# Altium footprint library B-NT_V.PcbLib: 24 footprints (part 2 of 2)
Each footprint in its own frame and in the unit in brackets; x right, y up, seen from the top. Pads: shape width x height; smd on the part's side, far side on the other; paste and mask are expansions set on the pad; w line width, h text height; cw(c..) or ccw(c..) is an arc to the next point about the centre after c.
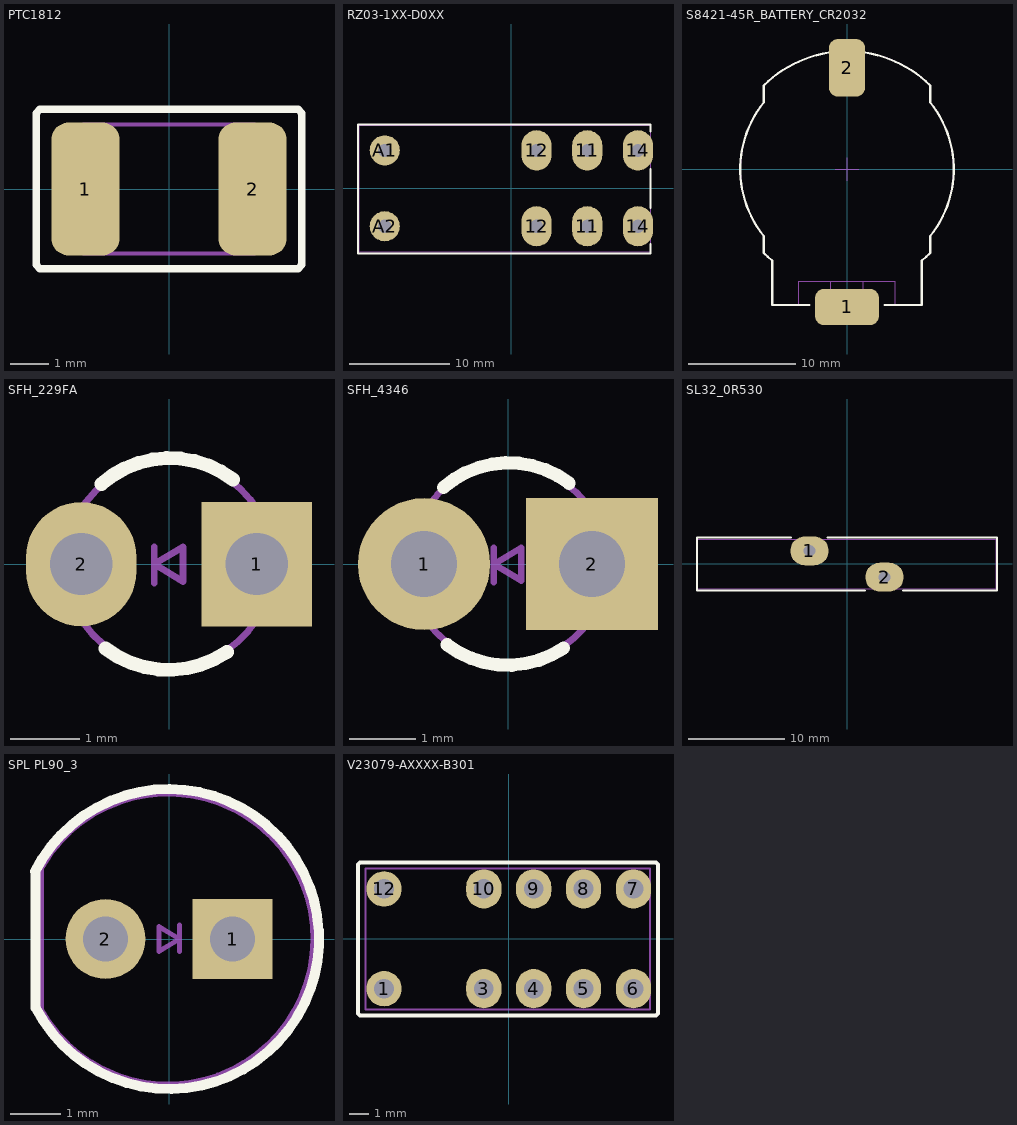
[diagram p1: the footprints below, top view; thin cyan lines are the x and y axes]

## PTC1812 [mm] "PTC RESTTBLE  1812 (4532 Metric (4.55mm x 3.24mm)"
height 1.1
pads (2):
  rrect50% 1.8x3.5 smd: 1(-2.2,0) 2(2.2,0)
Top Overlay:
  lines w0.2: -3.5,-2 -3.5,2 -3.4,2.1 3.4,2.1 3.5,2 3.5,-2 3.4,-2.1 -3.4,-2.1 -3.5,-2
M3 Top Assy:
  lines w0.1: -1.75,-1.6 -1.75,1.6 ; 1.75,-1.6 1.75,1.6 ; -2.25,-1.7 -2.25,1.7 2.25,1.7 2.25,-1.7 -2.25,-1.7
3D body "polyswitch 1812.STEP": height 1.1, standoff 0, extent -2.34,-1.705 2.39,1.705

## RZ03-1XX-D0XX [mm] "RZ03 Relay Module (29.0mm x 12.7mm x 15.7mm)"
height 15
pads (8):
  oval 3x4 hole 1.3: 11(7.56,-3.78) 11(7.56,3.78) 12(2.52,-3.78) 12(2.52,3.78) 14(12.6,-3.78) 14(12.6,3.78)
  round 3 hole 1.3: A1(-12.6,3.78) A2(-12.6,-3.78)
Top Overlay:
  lines w0.2: 13.835,-5.57 13.835,-6.47 -15.265,-6.47 -15.265,6.33 13.835,6.33 13.835,5.63 ; 13.835,-1.97 13.835,1.93
M3 Top Assy:
  lines w0.1: -15.12,-6.3 -15.12,6.3 13.88,6.3 13.88,-6.3 -15.12,-6.3
3D body "relay1.STEP": height 15.7, standoff -3.5, extent -15.1,-6.45 13.9,6.25

## S8421-45R_BATTERY_CR2032 [mm]
pads (2):
  rrect50% 6x3.4 smd: 1(0,-12.9)
  rrect50% 3.4x5.4 smd: 2(0,9.5)
Top Overlay:
  lines w0.2: -7.804,-6.253 cw(c0,0) -7.804,6.253 ; -7.8,-7.842 -7.8,-6.253 ; -7.8,6.253 -7.8,7.842 ; -7.792,-7.842 ccw(c0,0) -7.038,-8.525 -7,-8.563 -7,-12.7 -3.5,-12.7 ; -7.792,7.842 cw(c0,0) 7.791,7.842 ; 3.5,-12.7 7,-12.7 7,-8.563 ; 7.038,-8.525 ccw(c0,0) 7.792,-7.842 ; 7.8,-7.842 7.8,-6.253 ; 7.8,6.253 7.8,7.842 ; 7.804,-6.253 ccw(c0,0) 7.804,6.253
M3 Top Assy:
  lines w0.1: -7.804,-6.253 cw(c0,0) -7.804,6.253 ; -7.8,-7.842 -7.8,-6.253 ; -7.8,6.253 -7.8,7.842 ; -7.792,-7.842 ccw(c0,0) -7.038,-8.525 -7,-8.563 -7,-12.7 -4.5,-12.7 -4.5,-10.5 0,-10.5 4.5,-10.5 4.5,-12.7 7,-12.7 7,-8.563 ; -7.792,7.842 cw(c0,0) 7.791,7.842 ; -1.5,-10.5 -1.5,-13.5 1.5,-13.5 1.5,-10.5 ; 7.038,-8.525 ccw(c0,0) 7.792,-7.842 ; 7.8,-7.842 7.8,-6.253 ; 7.8,6.253 7.8,7.842 ; 7.804,-6.253 ccw(c0,0) 7.804,6.253
M8 Top Brd Anno:
  lines w0.1: -1.1,0 1.1,0 ; 0,-1.1 0,1.1
3D body "CircuitWorks-BATT CR2032.step": height 4.6, standoff 1.4, extent -10.1,-9.7 9.9,10.3
3D body "s8421-45r_asm.stp": height 5.3, standoff -0.03, extent -7.797,-13.5 7.798,11.15

## SFH_229FA [mm]
pads (2):
  rect 1.6x1.8 hole 0.9: 1(1.27,0)
  oval 1.6x1.8 hole 0.9: 2(-1.27,0)
Top Overlay:
  lines w0.2: -0.978,1.161 cw(c0.013,0.034) 0.925,1.225 ; -0.918,-1.221 ccw(c-0.006,-0.03) 0.838,-1.27
M3 Top Assy:
  lines w0.1: -0.213,-0.275 -0.213,0.25 ; 0.201,-0.249 0.201,0.248 -0.213,0 0.202,-0.249 ; 1.366,-0.621 cw(c0,0) 1.384,0.579 ; 1.375,-0.625 1.375,0.575
3D body "User Library-led 3mm white.STEP": height 6.68, standoff -0.8, extent -1.549,-1.644 1.664,1.653

## SFH_4346 [mm]
height 4.8
pads (2):
  round 2 hole 1: 1(-1.27,0)
  rect 2x2 hole 1: 2(1.27,0)
Top Overlay:
  lines w0.2: -0.978,1.161 cw(c0.013,0.034) 0.925,1.225 ; -0.918,-1.221 ccw(c-0.006,-0.03) 0.838,-1.27
M3 Top Assy:
  lines w0.1: -0.213,-0.275 -0.213,0.25 ; 0.201,-0.249 0.201,0.248 -0.213,0 0.202,-0.249 ; 1.366,-0.621 cw(c0,0) 1.384,0.579 ; 1.375,-0.625 1.375,0.575
3D body "User Library-led 3mm white.STEP": height 6.68, standoff -0.8, extent -1.664,-1.653 1.549,1.644

## SL32_0R530 [mm] "SL32 0R530 30х69х5mm"
height 69
pads (2):
  oval 4x3 hole 1.2: 1(-3.9,1.34) 2(3.9,-1.39)
Top Overlay:
  lines w0.2: -5.8,2.725 -15.6,2.725 -15.6,-2.775 1.875,-2.775 ; -2.025,2.725 15.6,2.725 15.6,-2.775 5.825,-2.775
M3 Top Assy:
  lines w0.1: -15.5,-2.6 15.5,-2.6 15.5,2.55 -15.5,2.55 -15.5,-2.6
3D body "SL32 0R530.STEP": height 38.5, standoff -2, extent -15.5,-2.89 15.5,2.79

## SPL PL90_3 [mm]
pads (2):
  rect 1.6x1.6 hole 0.9: 1(1.27,0)
  round 1.6 hole 0.9: 2(-1.27,0)
Top Overlay:
  lines w0.2: -2.678,1.352 cw(c0,0) -2.663,-1.381 ; -2.674,-1.381 -2.674,1.352
M3 Top Assy:
  lines w0.1: -2.557,-1.404 ccw(c-0.02,0) -2.536,1.442 ; -2.55,-1.4 -2.55,1.4 ; -0.202,0.249 0.213,0 -0.201,-0.248 -0.201,0.249 ; 0.213,-0.25 0.213,0.275
3D body "SPL_PL90_3_cut.STEP": height 4.6, standoff -3.06, extent -2.518,-2.875 2.925,2.975

## V23079-AXXXX-B301 [mm] "V23079 Relay Module (15mm x 7.5mm x 9.5mm)"
height 9.5
pads (10):
  round 1.8 hole 1: 1(-6.35,-2.54) 12(-6.35,2.54)
  oval 1.8x2 hole 1: 3(-1.27,-2.54) 4(1.27,-2.54) 5(3.81,-2.54) 6(6.35,-2.54) 7(6.35,2.54) 8(3.81,2.54) 9(1.27,2.54) 10(-1.27,2.54)
Top Overlay:
  lines w0.2: -7.675,-3.81 -7.575,-3.91 7.5,-3.91 7.6,-3.81 7.6,3.79 7.5,3.89 -7.575,3.89 -7.675,3.79 -7.675,-3.81
M3 Top Assy:
  lines w0.1: -7.3,-3.61 -7.3,3.59 7.2,3.59 7.2,-3.61 -7.3,-3.61
3D body "33819.stp": height 9.2, standoff -2.95, extent -7.45,-3.66 7.35,3.64